# EAGLE library part MICROVIEW-PINOUT (library Orlando)
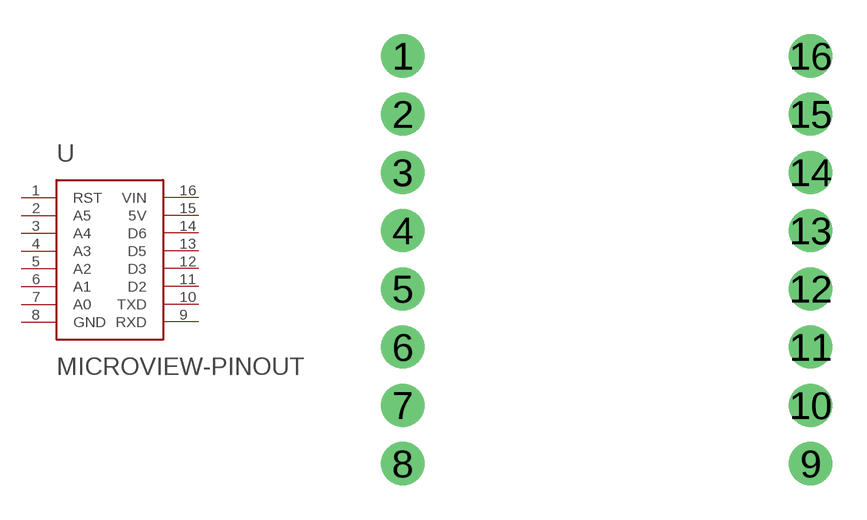
[diagram p23: symbol with the pads of MICROVIEW-PINOUT; footprint MICROVIEW-PINOUT]

Designator prefix -

## MICROVIEW-PINOUT  [MICROVIEW-PINOUT]
1  RST
2  A5
3  A4
4  A3
5  A2
6  A1
7  A0
8  GND
9  RXD
10  TXD
11  D2
12  D3
13  D5
14  D6
15  5V
16  VIN

## Footprint MICROVIEW-PINOUT (pad centres in mm)
drill 1.016 pad 1.88: 1 -8.89,8.89; 2 -8.89,6.35; 3 -8.89,3.81; 4 -8.89,1.27; 5 -8.89,-1.27; 6 -8.89,-3.81; 7 -8.89,-6.35; 8 -8.89,-8.89; 9 8.89,-8.89; 10 8.89,-6.35; 11 8.89,-3.81; 12 8.89,-1.27; 13 8.89,1.27; 14 8.89,3.81; 15 8.89,6.35; 16 8.89,8.89